# Altium footprint library MAX30102.PcbLib: 1 footprints
Each footprint in its own frame and in the unit in brackets; x right, y up, seen from the top. Pads: shape width x height; smd on the part's side, far side on the other; paste and mask are expansions set on the pad; w line width, h text height; cw(c..) or ccw(c..) is an arc to the next point about the centre after c.
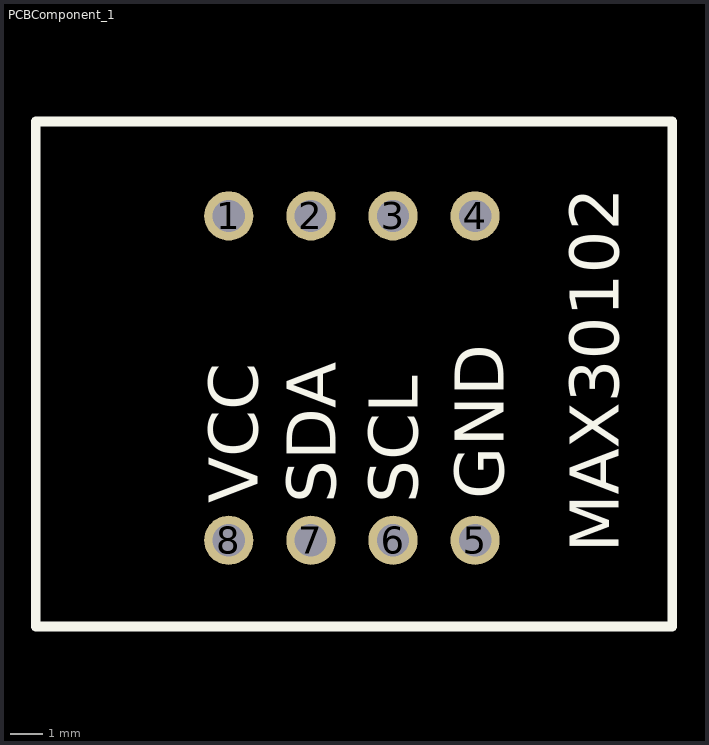
[diagram p0: the footprint, top view; thin cyan lines are the x and y axes]

## PCBComponent_1 [mil]
pads (8):
  round 60 hole 39.37: 1(285,840) 2(385,840) 3(485,840) 4(585,840) 5(585,445) 6(485,445) 7(385,445) 8(285,445)
Top Overlay:
  lines w11.81: 210,955 50,955 ; 665,955 825,955 ; 50,955 825,955 ; 50,955 50,340 825,340 825,955
  text "MAX30102" at 760,430 h60
  text "VCC" at 320,490 h60
  text "GND" at 620,495 h60
  text "SDA" at 415,490 h60
  text "SCL" at 515,490 h60